# Altium schematic symbol library PIC24FV32KA302ESS.Schlib: 1 symbol
Pins are listed as number, name and electrical type; pins without a type are passive.

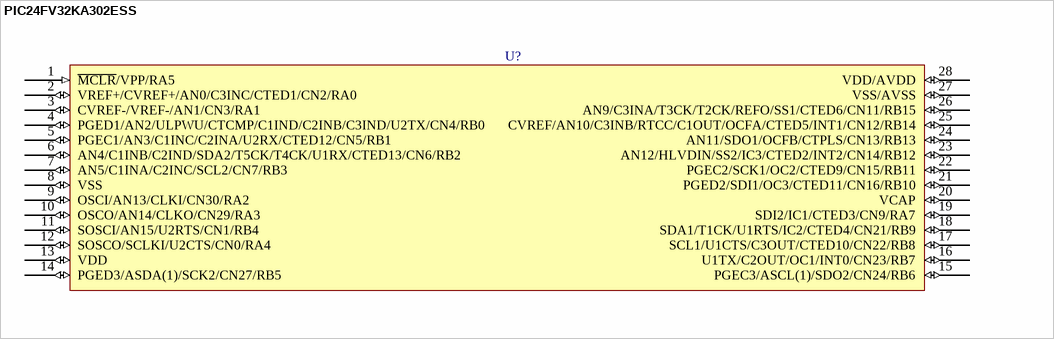
[diagram p0: symbol PIC24FV32KA302ESS]

## PIC24FV32KA302ESS
designator U?, comment PIC24FV
IC, Microcontroller
pins: 1 ~{MCLR}/VPP/RA5 (in), 2 VREF+/CVREF+/AN0/C3INC/CTED1/CN2/RA0 (io), 3 CVREF-/VREF-/AN1/CN3/RA1 (io), 4 PGED1/AN2/ULPWU/CTCMP/C1IND/C2INB/C3IND/U2TX/CN4/RB0 (io), 5 PGEC1/AN3/C1INC/C2INA/U2RX/CTED12/CN5/RB1 (io), 6 AN4/C1INB/C2IND/SDA2/T5CK/T4CK/U1RX/CTED13/CN6/RB2 (io), 7 AN5/C1INA/C2INC/SCL2/CN7/RB3 (io), 8 VSS (io), 9 OSCI/AN13/CLKI/CN30/RA2 (io), 10 OSCO/AN14/CLKO/CN29/RA3 (io), 11 SOSCI/AN15/U2RTS/CN1/RB4 (io), 12 SOSCO/SCLKI/U2CTS/CN0/RA4 (io), 13 VDD (io), 14 PGED3/ASDA(1)/SCK2/CN27/RB5 (io), 15 PGEC3/ASCL(1)/SDO2/CN24/RB6 (io), 16 U1TX/C2OUT/OC1/INT0/CN23/RB7 (io), 17 SCL1/U1CTS/C3OUT/CTED10/CN22/RB8 (io), 18 SDA1/T1CK/U1RTS/IC2/CTED4/CN21/RB9 (io), 19 SDI2/IC1/CTED3/CN9/RA7 (io), 20 VCAP (io), 21 PGED2/SDI1/OC3/CTED11/CN16/RB10 (io), 22 PGEC2/SCK1/OC2/CTED9/CN15/RB11 (io), 23 AN12/HLVDIN/SS2/IC3/CTED2/INT2/CN14/RB12 (io), 24 AN11/SDO1/OCFB/CTPLS/CN13/RB13 (io), 25 CVREF/AN10/C3INB/RTCC/C1OUT/OCFA/CTED5/INT1/CN12/RB14 (io), 26 AN9/C3INA/T3CK/T2CK/REFO/SS1/CTED6/CN11/RB15 (io), 27 VSS/AVSS (io), 28 VDD/AVDD (io)
1 alternate drawing of the same symbol